# EAGLE library part DRV8838_H-BRIDGE_POLOLU-BREAKOUT (library PiB)
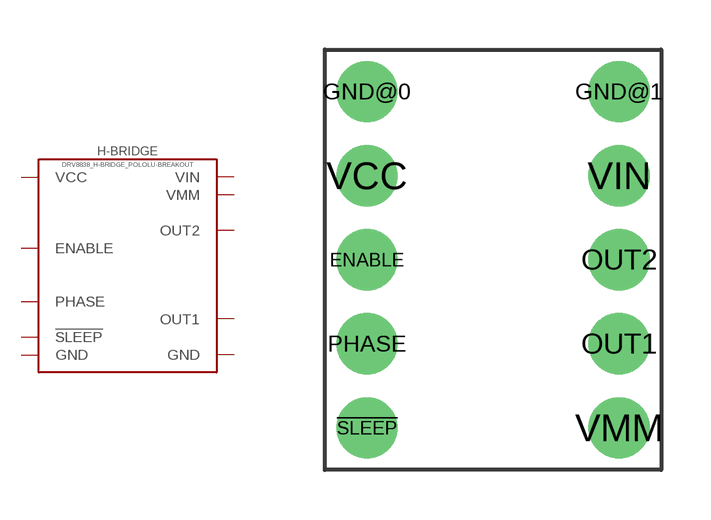
[diagram p14: symbol with the pads of DRV8838_H-BRIDGE_POLOLU-BREAKOUT; footprint DRV8838_H-BRIDGE_POLOLU-BREAKOUT]

Designator prefix H-BRIDGE

## DRV8838_H-BRIDGE_POLOLU-BREAKOUT_1.8A_BREAKOUT (DATASHEET: https://www.pololu.com/file/0J806/drv8838.pdf; DIST: Pololu; DISTLINK: https://www.pololu.com/product/2990; DISTPN: 2990; MFR: Pololu; MPN: DRV8838D; VALUE: DRV8838D 1.8A)  [DRV8838_H-BRIDGE_POLOLU-BREAKOUT]
!SLEEP  !SLEEP  nc
ENABLE  ENABLE  in
GND@0  GND  pas
GND@1  GND  pas
OUT1  OUT1  pas
OUT2  OUT2  pas
PHASE  PHASE  in
VCC  VCC  pas
VIN  VIN  pas
VMM  VMM  nc

## Footprint DRV8838_H-BRIDGE_POLOLU-BREAKOUT (pad centres in mm)
drill 1 pad 1.85: !SLEEP -3.81,-5.08; ENABLE -3.81,0; GND@0 -3.81,5.08; GND@1 3.81,5.08; OUT1 3.81,-2.54; OUT2 3.81,0; PHASE -3.81,-2.54; VCC -3.81,2.54; VIN 3.81,2.54; VMM 3.81,-5.08